# Altium schematic symbol library ConnPCI_5V.Schlib: 1 symbol
Pins are listed as number, name and electrical type; pins without a type are passive.

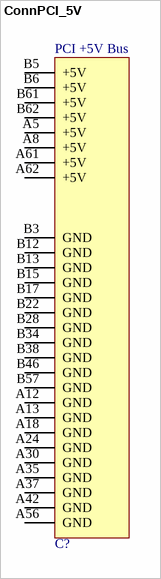
[diagram p0: symbol ConnPCI_5V]

## ConnPCI_5V
designator C?
PCI Bus connector with +5V and GND only; Package Information: Latest Revision: 1997; Published: 8-Jun-2000; Revision: 17-Jul-2002: Re-released for DXP Platform.; Datasheet: Latest Revision: 1997; Package Reference: JW40; Publisher: Altium Limited
footprint PCI_5_short
pins: A5 +5V (power), A8 +5V (power), A12 GND (power), A13 GND (power), A18 GND (power), A24 GND (power), A30 GND (power), A35 GND (power), A37 GND (power), A42 GND (power), A56 GND (power), A61 +5V (power), A62 +5V (power), B3 GND (power), B5 +5V (power), B6 +5V (power), B12 GND (power), B13 GND (power), B15 GND (power), B17 GND (power), B22 GND (power), B28 GND (power), B34 GND (power), B38 GND (power), B46 GND (power), B57 GND (power), B61 +5V (power), B62 +5V (power)
text: PCI +5V Bus